# Altium footprint library Actel Footprints.PcbLib: 111 footprints (part 9 of 10)
Each footprint in its own frame and in the unit in brackets; x right, y up, seen from the top. Pads: shape width x height; smd on the part's side, far side on the other; paste and mask are expansions set on the pad; w line width, h text height; cw(c..) or ccw(c..) is an arc to the next point about the centre after c.
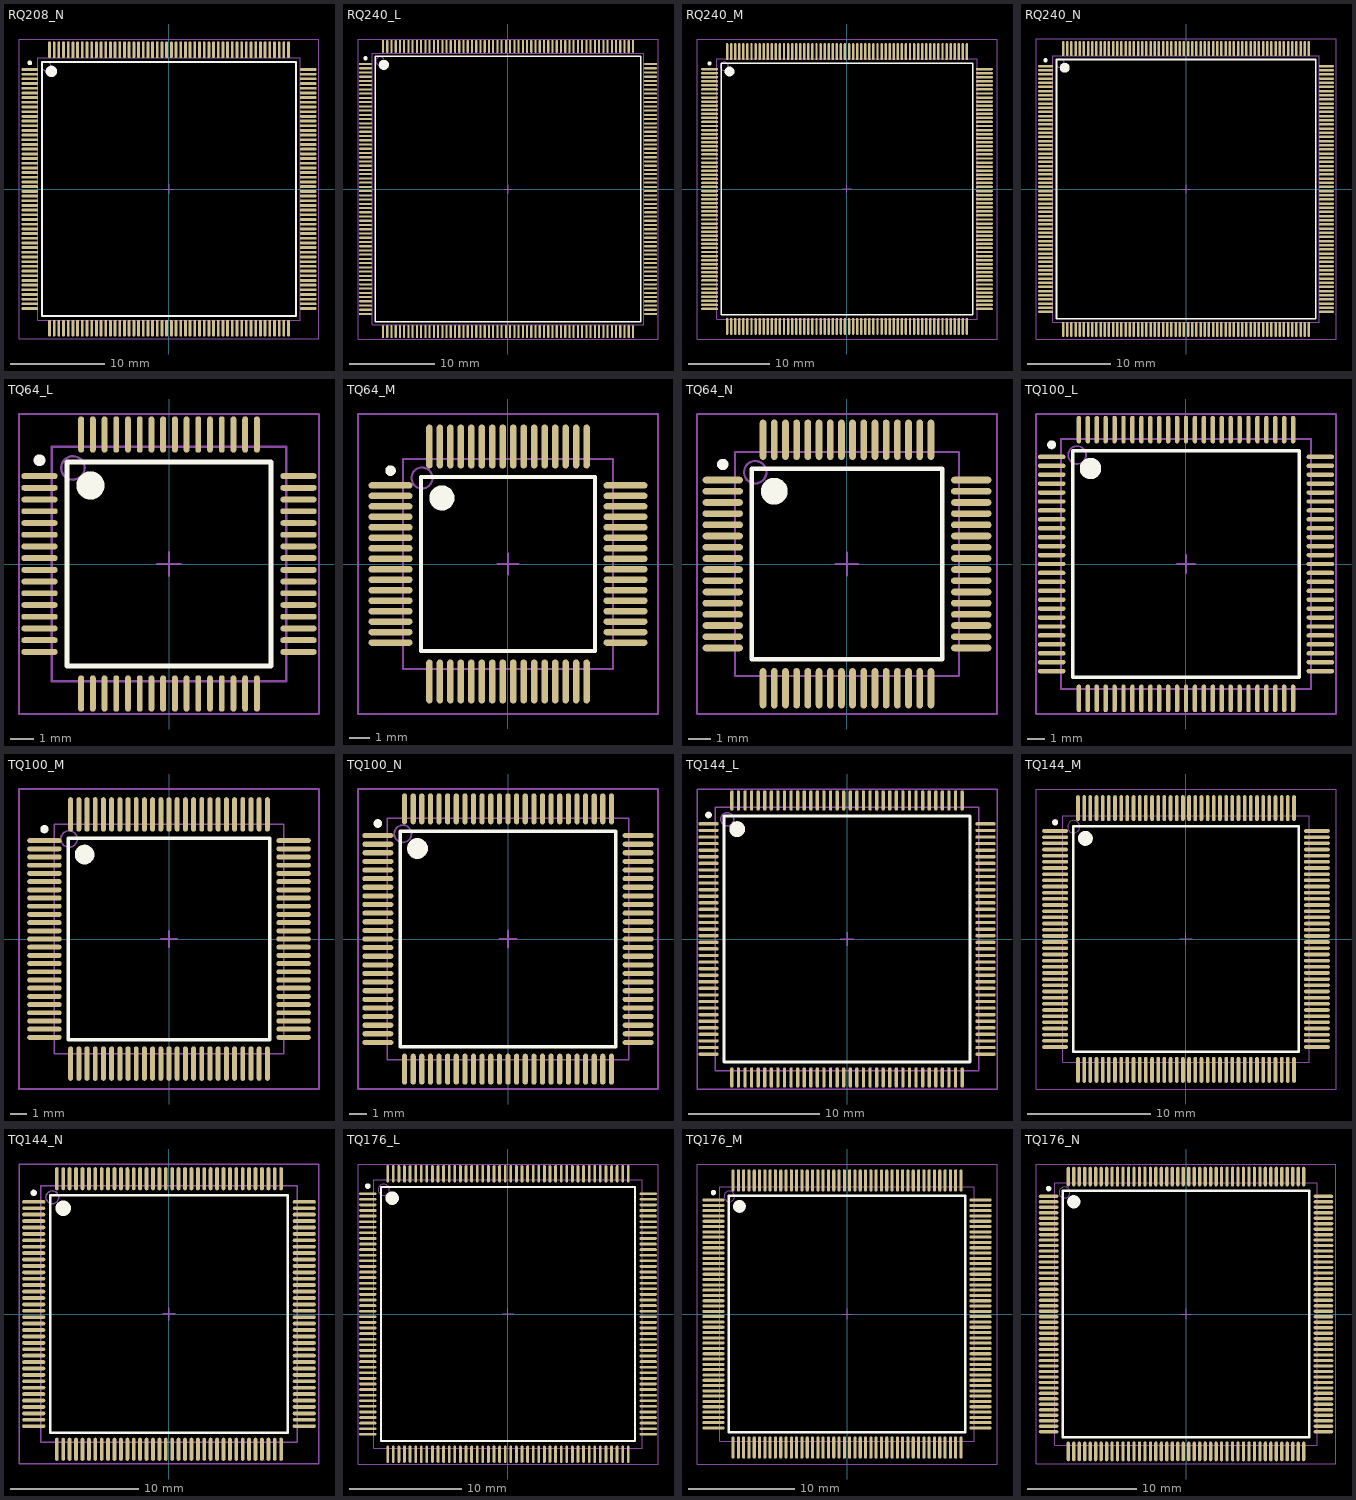
[diagram p8: the footprints below, top view; thin cyan lines are the x and y axes]

## RQ208_N [mm] "208-Pin Plastic Quad Flat Pack (RQ208), IPC Medium Density"
height 4.1
pads (208):
  oval 1.8x0.3 smd: 1(-14.85,12.75) 2(-14.85,12.25) 3(-14.85,11.75) 4(-14.85,11.25) 5(-14.85,10.75) 6(-14.85,10.25) 7(-14.85,9.75) 8(-14.85,9.25) 9(-14.85,8.75) 10(-14.85,8.25) 11(-14.85,7.75) 12(-14.85,7.25) 13(-14.85,6.75) 14(-14.85,6.25) 15(-14.85,5.75) 16(-14.85,5.25) 17(-14.85,4.75) 18(-14.85,4.25) 19(-14.85,3.75) 20(-14.85,3.25) 21(-14.85,2.75) 22(-14.85,2.25) 23(-14.85,1.75) 24(-14.85,1.25) 25(-14.85,0.75) 26(-14.85,0.25) 27(-14.85,-0.25) 28(-14.85,-0.75) 29(-14.85,-1.25) 30(-14.85,-1.75) 31(-14.85,-2.25) 32(-14.85,-2.75) 33(-14.85,-3.25) 34(-14.85,-3.75) 35(-14.85,-4.25) 36(-14.85,-4.75) 37(-14.85,-5.25) 38(-14.85,-5.75) 39(-14.85,-6.25) 40(-14.85,-6.75) 41(-14.85,-7.25) 42(-14.85,-7.75) 43(-14.85,-8.25) 44(-14.85,-8.75) 45(-14.85,-9.25) 46(-14.85,-9.75) 47(-14.85,-10.25) 48(-14.85,-10.75) 49(-14.85,-11.25) 50(-14.85,-11.75) 51(-14.85,-12.25) 52(-14.85,-12.75) 105(14.85,-12.75) 106(14.85,-12.25) 107(14.85,-11.75) 108(14.85,-11.25) 109(14.85,-10.75) 110(14.85,-10.25) 111(14.85,-9.75) 112(14.85,-9.25) 113(14.85,-8.75) 114(14.85,-8.25) 115(14.85,-7.75) 116(14.85,-7.25) 117(14.85,-6.75) 118(14.85,-6.25) 119(14.85,-5.75) 120(14.85,-5.25) 121(14.85,-4.75) 122(14.85,-4.25) 123(14.85,-3.75) 124(14.85,-3.25) 125(14.85,-2.75) 126(14.85,-2.25) 127(14.85,-1.75) 128(14.85,-1.25) 129(14.85,-0.75) 130(14.85,-0.25) 131(14.85,0.25) 132(14.85,0.75) 133(14.85,1.25) 134(14.85,1.75) 135(14.85,2.25) 136(14.85,2.75) 137(14.85,3.25) 138(14.85,3.75) 139(14.85,4.25) 140(14.85,4.75) 141(14.85,5.25) 142(14.85,5.75) 143(14.85,6.25) 144(14.85,6.75) 145(14.85,7.25) 146(14.85,7.75) 147(14.85,8.25) 148(14.85,8.75) 149(14.85,9.25) 150(14.85,9.75) 151(14.85,10.25) 152(14.85,10.75) 153(14.85,11.25) 154(14.85,11.75) 155(14.85,12.25) 156(14.85,12.75)
  oval 0.3x1.8 smd: 53(-12.75,-14.85) 54(-12.25,-14.85) 55(-11.75,-14.85) 56(-11.25,-14.85) 57(-10.75,-14.85) 58(-10.25,-14.85) 59(-9.75,-14.85) 60(-9.25,-14.85) 61(-8.75,-14.85) 62(-8.25,-14.85) 63(-7.75,-14.85) 64(-7.25,-14.85) 65(-6.75,-14.85) 66(-6.25,-14.85) 67(-5.75,-14.85) 68(-5.25,-14.85) 69(-4.75,-14.85) 70(-4.25,-14.85) 71(-3.75,-14.85) 72(-3.25,-14.85) 73(-2.75,-14.85) 74(-2.25,-14.85) 75(-1.75,-14.85) 76(-1.25,-14.85) 77(-0.75,-14.85) 78(-0.25,-14.85) 79(0.25,-14.85) 80(0.75,-14.85) 81(1.25,-14.85) 82(1.75,-14.85) 83(2.25,-14.85) 84(2.75,-14.85) 85(3.25,-14.85) 86(3.75,-14.85) 87(4.25,-14.85) 88(4.75,-14.85) 89(5.25,-14.85) 90(5.75,-14.85) 91(6.25,-14.85) 92(6.75,-14.85) 93(7.25,-14.85) 94(7.75,-14.85) 95(8.25,-14.85) 96(8.75,-14.85) 97(9.25,-14.85) 98(9.75,-14.85) 99(10.25,-14.85) 100(10.75,-14.85) 101(11.25,-14.85) 102(11.75,-14.85) 103(12.25,-14.85) 104(12.75,-14.85) 157(12.75,14.85) 158(12.25,14.85) 159(11.75,14.85) 160(11.25,14.85) 161(10.75,14.85) 162(10.25,14.85) 163(9.75,14.85) 164(9.25,14.85) 165(8.75,14.85) 166(8.25,14.85) 167(7.75,14.85) 168(7.25,14.85) 169(6.75,14.85) 170(6.25,14.85) 171(5.75,14.85) 172(5.25,14.85) 173(4.75,14.85) 174(4.25,14.85) 175(3.75,14.85) 176(3.25,14.85) 177(2.75,14.85) 178(2.25,14.85) 179(1.75,14.85) 180(1.25,14.85) 181(0.75,14.85) 182(0.25,14.85) 183(-0.25,14.85) 184(-0.75,14.85) 185(-1.25,14.85) 186(-1.75,14.85) 187(-2.25,14.85) 188(-2.75,14.85) 189(-3.25,14.85) 190(-3.75,14.85) 191(-4.25,14.85) 192(-4.75,14.85) 193(-5.25,14.85) 194(-5.75,14.85) 195(-6.25,14.85) 196(-6.75,14.85) 197(-7.25,14.85) 198(-7.75,14.85) 199(-8.25,14.85) 200(-8.75,14.85) 201(-9.25,14.85) 202(-9.75,14.85) 203(-10.25,14.85) 204(-10.75,14.85) 205(-11.25,14.85) 206(-11.75,14.85) 207(-12.25,14.85) 208(-12.75,14.85)
Top Overlay:
  circle w0.6: c-12.55,12.55 r0.3
  circle w0.25: c-14.85,13.45 r0.125
  lines w0.2: -13.55,-13.55 13.55,-13.55 13.55,13.55 -13.55,13.55 -13.55,-13.55
Mechanical 13:
  circle w0.1: c-13.1,13.1 r0.5
  lines w0.1: -14,-14 14,-14 14,14 -14,14 -14,-14
Mechanical 15:
  lines w0.1: -0.5,0 0.5,0 ; 0,-0.5 0,0.5 ; -16,-16 16,-16 16,16 -16,16 -16,-16
3D body: height 4.1, standoff 0, extent -14,-14 14,14

## RQ240_L [mm] "240-Pin Plastic Quad Flat Pack (RQ240), IPC High Density"
height 4.1
pads (240):
  oval 1.55x0.25 smd: 1(-16.825,14.75) 2(-16.825,14.25) 3(-16.825,13.75) 4(-16.825,13.25) 5(-16.825,12.75) 6(-16.825,12.25) 7(-16.825,11.75) 8(-16.825,11.25) 9(-16.825,10.75) 10(-16.825,10.25) 11(-16.825,9.75) 12(-16.825,9.25) 13(-16.825,8.75) 14(-16.825,8.25) 15(-16.825,7.75) 16(-16.825,7.25) 17(-16.825,6.75) 18(-16.825,6.25) 19(-16.825,5.75) 20(-16.825,5.25) 21(-16.825,4.75) 22(-16.825,4.25) 23(-16.825,3.75) 24(-16.825,3.25) 25(-16.825,2.75) 26(-16.825,2.25) 27(-16.825,1.75) 28(-16.825,1.25) 29(-16.825,0.75) 30(-16.825,0.25) 31(-16.825,-0.25) 32(-16.825,-0.75) 33(-16.825,-1.25) 34(-16.825,-1.75) 35(-16.825,-2.25) 36(-16.825,-2.75) 37(-16.825,-3.25) 38(-16.825,-3.75) 39(-16.825,-4.25) 40(-16.825,-4.75) 41(-16.825,-5.25) 42(-16.825,-5.75) 43(-16.825,-6.25) 44(-16.825,-6.75) 45(-16.825,-7.25) 46(-16.825,-7.75) 47(-16.825,-8.25) 48(-16.825,-8.75) 49(-16.825,-9.25) 50(-16.825,-9.75) 51(-16.825,-10.25) 52(-16.825,-10.75) 53(-16.825,-11.25) 54(-16.825,-11.75) 55(-16.825,-12.25) 56(-16.825,-12.75) 57(-16.825,-13.25) 58(-16.825,-13.75) 59(-16.825,-14.25) 60(-16.825,-14.75) 121(16.825,-14.75) 122(16.825,-14.25) 123(16.825,-13.75) 124(16.825,-13.25) 125(16.825,-12.75) 126(16.825,-12.25) 127(16.825,-11.75) 128(16.825,-11.25) 129(16.825,-10.75) 130(16.825,-10.25) 131(16.825,-9.75) 132(16.825,-9.25) 133(16.825,-8.75) 134(16.825,-8.25) 135(16.825,-7.75) 136(16.825,-7.25) 137(16.825,-6.75) 138(16.825,-6.25) 139(16.825,-5.75) 140(16.825,-5.25) 141(16.825,-4.75) 142(16.825,-4.25) 143(16.825,-3.75) 144(16.825,-3.25) 145(16.825,-2.75) 146(16.825,-2.25) 147(16.825,-1.75) 148(16.825,-1.25) 149(16.825,-0.75) 150(16.825,-0.25) 151(16.825,0.25) 152(16.825,0.75) 153(16.825,1.25) 154(16.825,1.75) 155(16.825,2.25) 156(16.825,2.75) 157(16.825,3.25) 158(16.825,3.75) 159(16.825,4.25) 160(16.825,4.75) 161(16.825,5.25) 162(16.825,5.75) 163(16.825,6.25) 164(16.825,6.75) 165(16.825,7.25) 166(16.825,7.75) 167(16.825,8.25) 168(16.825,8.75) 169(16.825,9.25) 170(16.825,9.75) 171(16.825,10.25) 172(16.825,10.75) 173(16.825,11.25) 174(16.825,11.75) 175(16.825,12.25) 176(16.825,12.75) 177(16.825,13.25) 178(16.825,13.75) 179(16.825,14.25) 180(16.825,14.75)
  oval 0.25x1.55 smd: 61(-14.75,-16.825) 62(-14.25,-16.825) 63(-13.75,-16.825) 64(-13.25,-16.825) 65(-12.75,-16.825) 66(-12.25,-16.825) 67(-11.75,-16.825) 68(-11.25,-16.825) 69(-10.75,-16.825) 70(-10.25,-16.825) 71(-9.75,-16.825) 72(-9.25,-16.825) 73(-8.75,-16.825) 74(-8.25,-16.825) 75(-7.75,-16.825) 76(-7.25,-16.825) 77(-6.75,-16.825) 78(-6.25,-16.825) 79(-5.75,-16.825) 80(-5.25,-16.825) 81(-4.75,-16.825) 82(-4.25,-16.825) 83(-3.75,-16.825) 84(-3.25,-16.825) 85(-2.75,-16.825) 86(-2.25,-16.825) 87(-1.75,-16.825) 88(-1.25,-16.825) 89(-0.75,-16.825) 90(-0.25,-16.825) 91(0.25,-16.825) 92(0.75,-16.825) 93(1.25,-16.825) 94(1.75,-16.825) 95(2.25,-16.825) 96(2.75,-16.825) 97(3.25,-16.825) 98(3.75,-16.825) 99(4.25,-16.825) 100(4.75,-16.825) 101(5.25,-16.825) 102(5.75,-16.825) 103(6.25,-16.825) 104(6.75,-16.825) 105(7.25,-16.825) 106(7.75,-16.825) 107(8.25,-16.825) 108(8.75,-16.825) 109(9.25,-16.825) 110(9.75,-16.825) 111(10.25,-16.825) 112(10.75,-16.825) 113(11.25,-16.825) 114(11.75,-16.825) 115(12.25,-16.825) 116(12.75,-16.825) 117(13.25,-16.825) 118(13.75,-16.825) 119(14.25,-16.825) 120(14.75,-16.825) 181(14.75,16.825) 182(14.25,16.825) 183(13.75,16.825) 184(13.25,16.825) 185(12.75,16.825) 186(12.25,16.825) 187(11.75,16.825) 188(11.25,16.825) 189(10.75,16.825) 190(10.25,16.825) 191(9.75,16.825) 192(9.25,16.825) 193(8.75,16.825) 194(8.25,16.825) 195(7.75,16.825) 196(7.25,16.825) 197(6.75,16.825) 198(6.25,16.825) 199(5.75,16.825) 200(5.25,16.825) 201(4.75,16.825) 202(4.25,16.825) 203(3.75,16.825) 204(3.25,16.825) 205(2.75,16.825) 206(2.25,16.825) 207(1.75,16.825) 208(1.25,16.825) 209(0.75,16.825) 210(0.25,16.825) 211(-0.25,16.825) 212(-0.75,16.825) 213(-1.25,16.825) 214(-1.75,16.825) 215(-2.25,16.825) 216(-2.75,16.825) 217(-3.25,16.825) 218(-3.75,16.825) 219(-4.25,16.825) 220(-4.75,16.825) 221(-5.25,16.825) 222(-5.75,16.825) 223(-6.25,16.825) 224(-6.75,16.825) 225(-7.25,16.825) 226(-7.75,16.825) 227(-8.25,16.825) 228(-8.75,16.825) 229(-9.25,16.825) 230(-9.75,16.825) 231(-10.25,16.825) 232(-10.75,16.825) 233(-11.25,16.825) 234(-11.75,16.825) 235(-12.25,16.825) 236(-12.75,16.825) 237(-13.25,16.825) 238(-13.75,16.825) 239(-14.25,16.825) 240(-14.75,16.825)
Top Overlay:
  circle w0.6: c-14.65,14.65 r0.3
  circle w0.25: c-16.825,15.425 r0.125
  lines w0.2: -15.65,-15.65 15.65,-15.65 15.65,15.65 -15.65,15.65 -15.65,-15.65
Mechanical 13:
  circle w0.1: c-15.1,15.1 r0.5
  lines w0.1: -16,-16 16,-16 16,16 -16,16 -16,-16
Mechanical 15:
  lines w0.1: -0.5,0 0.5,0 ; 0,-0.5 0,0.5 ; -17.7,-17.7 17.7,-17.7 17.7,17.7 -17.7,17.7 -17.7,-17.7
3D body: height 4.1, standoff 0, extent -16,-16 16,16

## RQ240_M [mm] "240-Pin Plastic Quad Flat Pack (RQ240), IPC Low Density"
height 4.1
pads (240):
  oval 2.1x0.3 smd: 1(-16.9,14.75) 2(-16.9,14.25) 3(-16.9,13.75) 4(-16.9,13.25) 5(-16.9,12.75) 6(-16.9,12.25) 7(-16.9,11.75) 8(-16.9,11.25) 9(-16.9,10.75) 10(-16.9,10.25) 11(-16.9,9.75) 12(-16.9,9.25) 13(-16.9,8.75) 14(-16.9,8.25) 15(-16.9,7.75) 16(-16.9,7.25) 17(-16.9,6.75) 18(-16.9,6.25) 19(-16.9,5.75) 20(-16.9,5.25) 21(-16.9,4.75) 22(-16.9,4.25) 23(-16.9,3.75) 24(-16.9,3.25) 25(-16.9,2.75) 26(-16.9,2.25) 27(-16.9,1.75) 28(-16.9,1.25) 29(-16.9,0.75) 30(-16.9,0.25) 31(-16.9,-0.25) 32(-16.9,-0.75) 33(-16.9,-1.25) 34(-16.9,-1.75) 35(-16.9,-2.25) 36(-16.9,-2.75) 37(-16.9,-3.25) 38(-16.9,-3.75) 39(-16.9,-4.25) 40(-16.9,-4.75) 41(-16.9,-5.25) 42(-16.9,-5.75) 43(-16.9,-6.25) 44(-16.9,-6.75) 45(-16.9,-7.25) 46(-16.9,-7.75) 47(-16.9,-8.25) 48(-16.9,-8.75) 49(-16.9,-9.25) 50(-16.9,-9.75) 51(-16.9,-10.25) 52(-16.9,-10.75) 53(-16.9,-11.25) 54(-16.9,-11.75) 55(-16.9,-12.25) 56(-16.9,-12.75) 57(-16.9,-13.25) 58(-16.9,-13.75) 59(-16.9,-14.25) 60(-16.9,-14.75) 121(16.9,-14.75) 122(16.9,-14.25) 123(16.9,-13.75) 124(16.9,-13.25) 125(16.9,-12.75) 126(16.9,-12.25) 127(16.9,-11.75) 128(16.9,-11.25) 129(16.9,-10.75) 130(16.9,-10.25) 131(16.9,-9.75) 132(16.9,-9.25) 133(16.9,-8.75) 134(16.9,-8.25) 135(16.9,-7.75) 136(16.9,-7.25) 137(16.9,-6.75) 138(16.9,-6.25) 139(16.9,-5.75) 140(16.9,-5.25) 141(16.9,-4.75) 142(16.9,-4.25) 143(16.9,-3.75) 144(16.9,-3.25) 145(16.9,-2.75) 146(16.9,-2.25) 147(16.9,-1.75) 148(16.9,-1.25) 149(16.9,-0.75) 150(16.9,-0.25) 151(16.9,0.25) 152(16.9,0.75) 153(16.9,1.25) 154(16.9,1.75) 155(16.9,2.25) 156(16.9,2.75) 157(16.9,3.25) 158(16.9,3.75) 159(16.9,4.25) 160(16.9,4.75) 161(16.9,5.25) 162(16.9,5.75) 163(16.9,6.25) 164(16.9,6.75) 165(16.9,7.25) 166(16.9,7.75) 167(16.9,8.25) 168(16.9,8.75) 169(16.9,9.25) 170(16.9,9.75) 171(16.9,10.25) 172(16.9,10.75) 173(16.9,11.25) 174(16.9,11.75) 175(16.9,12.25) 176(16.9,12.75) 177(16.9,13.25) 178(16.9,13.75) 179(16.9,14.25) 180(16.9,14.75)
  oval 0.3x2.1 smd: 61(-14.75,-16.9) 62(-14.25,-16.9) 63(-13.75,-16.9) 64(-13.25,-16.9) 65(-12.75,-16.9) 66(-12.25,-16.9) 67(-11.75,-16.9) 68(-11.25,-16.9) 69(-10.75,-16.9) 70(-10.25,-16.9) 71(-9.75,-16.9) 72(-9.25,-16.9) 73(-8.75,-16.9) 74(-8.25,-16.9) 75(-7.75,-16.9) 76(-7.25,-16.9) 77(-6.75,-16.9) 78(-6.25,-16.9) 79(-5.75,-16.9) 80(-5.25,-16.9) 81(-4.75,-16.9) 82(-4.25,-16.9) 83(-3.75,-16.9) 84(-3.25,-16.9) 85(-2.75,-16.9) 86(-2.25,-16.9) 87(-1.75,-16.9) 88(-1.25,-16.9) 89(-0.75,-16.9) 90(-0.25,-16.9) 91(0.25,-16.9) 92(0.75,-16.9) 93(1.25,-16.9) 94(1.75,-16.9) 95(2.25,-16.9) 96(2.75,-16.9) 97(3.25,-16.9) 98(3.75,-16.9) 99(4.25,-16.9) 100(4.75,-16.9) 101(5.25,-16.9) 102(5.75,-16.9) 103(6.25,-16.9) 104(6.75,-16.9) 105(7.25,-16.9) 106(7.75,-16.9) 107(8.25,-16.9) 108(8.75,-16.9) 109(9.25,-16.9) 110(9.75,-16.9) 111(10.25,-16.9) 112(10.75,-16.9) 113(11.25,-16.9) 114(11.75,-16.9) 115(12.25,-16.9) 116(12.75,-16.9) 117(13.25,-16.9) 118(13.75,-16.9) 119(14.25,-16.9) 120(14.75,-16.9) 181(14.75,16.9) 182(14.25,16.9) 183(13.75,16.9) 184(13.25,16.9) 185(12.75,16.9) 186(12.25,16.9) 187(11.75,16.9) 188(11.25,16.9) 189(10.75,16.9) 190(10.25,16.9) 191(9.75,16.9) 192(9.25,16.9) 193(8.75,16.9) 194(8.25,16.9) 195(7.75,16.9) 196(7.25,16.9) 197(6.75,16.9) 198(6.25,16.9) 199(5.75,16.9) 200(5.25,16.9) 201(4.75,16.9) 202(4.25,16.9) 203(3.75,16.9) 204(3.25,16.9) 205(2.75,16.9) 206(2.25,16.9) 207(1.75,16.9) 208(1.25,16.9) 209(0.75,16.9) 210(0.25,16.9) 211(-0.25,16.9) 212(-0.75,16.9) 213(-1.25,16.9) 214(-1.75,16.9) 215(-2.25,16.9) 216(-2.75,16.9) 217(-3.25,16.9) 218(-3.75,16.9) 219(-4.25,16.9) 220(-4.75,16.9) 221(-5.25,16.9) 222(-5.75,16.9) 223(-6.25,16.9) 224(-6.75,16.9) 225(-7.25,16.9) 226(-7.75,16.9) 227(-8.25,16.9) 228(-8.75,16.9) 229(-9.25,16.9) 230(-9.75,16.9) 231(-10.25,16.9) 232(-10.75,16.9) 233(-11.25,16.9) 234(-11.75,16.9) 235(-12.25,16.9) 236(-12.75,16.9) 237(-13.25,16.9) 238(-13.75,16.9) 239(-14.25,16.9) 240(-14.75,16.9)
Top Overlay:
  circle w0.6: c-14.45,14.45 r0.3
  circle w0.25: c-16.9,15.45 r0.125
  lines w0.2: -15.45,-15.45 15.45,-15.45 15.45,15.45 -15.45,15.45 -15.45,-15.45
Mechanical 13:
  circle w0.1: c-15.1,15.1 r0.5
  lines w0.1: -16,-16 16,-16 16,16 -16,16 -16,-16
Mechanical 15:
  lines w0.1: -0.5,0 0.5,0 ; 0,-0.5 0,0.5 ; -18.45,-18.45 18.45,-18.45 18.45,18.45 -18.45,18.45 -18.45,-18.45
3D body: height 4.1, standoff 0, extent -16,-16 16,16

## RQ240_N [mm] "240-Pin Plastic Quad Flat Pack (RQ240), IPC Medium Density"
height 4.1
pads (240):
  oval 1.8x0.3 smd: 1(-16.85,14.75) 2(-16.85,14.25) 3(-16.85,13.75) 4(-16.85,13.25) 5(-16.85,12.75) 6(-16.85,12.25) 7(-16.85,11.75) 8(-16.85,11.25) 9(-16.85,10.75) 10(-16.85,10.25) 11(-16.85,9.75) 12(-16.85,9.25) 13(-16.85,8.75) 14(-16.85,8.25) 15(-16.85,7.75) 16(-16.85,7.25) 17(-16.85,6.75) 18(-16.85,6.25) 19(-16.85,5.75) 20(-16.85,5.25) 21(-16.85,4.75) 22(-16.85,4.25) 23(-16.85,3.75) 24(-16.85,3.25) 25(-16.85,2.75) 26(-16.85,2.25) 27(-16.85,1.75) 28(-16.85,1.25) 29(-16.85,0.75) 30(-16.85,0.25) 31(-16.85,-0.25) 32(-16.85,-0.75) 33(-16.85,-1.25) 34(-16.85,-1.75) 35(-16.85,-2.25) 36(-16.85,-2.75) 37(-16.85,-3.25) 38(-16.85,-3.75) 39(-16.85,-4.25) 40(-16.85,-4.75) 41(-16.85,-5.25) 42(-16.85,-5.75) 43(-16.85,-6.25) 44(-16.85,-6.75) 45(-16.85,-7.25) 46(-16.85,-7.75) 47(-16.85,-8.25) 48(-16.85,-8.75) 49(-16.85,-9.25) 50(-16.85,-9.75) 51(-16.85,-10.25) 52(-16.85,-10.75) 53(-16.85,-11.25) 54(-16.85,-11.75) 55(-16.85,-12.25) 56(-16.85,-12.75) 57(-16.85,-13.25) 58(-16.85,-13.75) 59(-16.85,-14.25) 60(-16.85,-14.75) 121(16.85,-14.75) 122(16.85,-14.25) 123(16.85,-13.75) 124(16.85,-13.25) 125(16.85,-12.75) 126(16.85,-12.25) 127(16.85,-11.75) 128(16.85,-11.25) 129(16.85,-10.75) 130(16.85,-10.25) 131(16.85,-9.75) 132(16.85,-9.25) 133(16.85,-8.75) 134(16.85,-8.25) 135(16.85,-7.75) 136(16.85,-7.25) 137(16.85,-6.75) 138(16.85,-6.25) 139(16.85,-5.75) 140(16.85,-5.25) 141(16.85,-4.75) 142(16.85,-4.25) 143(16.85,-3.75) 144(16.85,-3.25) 145(16.85,-2.75) 146(16.85,-2.25) 147(16.85,-1.75) 148(16.85,-1.25) 149(16.85,-0.75) 150(16.85,-0.25) 151(16.85,0.25) 152(16.85,0.75) 153(16.85,1.25) 154(16.85,1.75) 155(16.85,2.25) 156(16.85,2.75) 157(16.85,3.25) 158(16.85,3.75) 159(16.85,4.25) 160(16.85,4.75) 161(16.85,5.25) 162(16.85,5.75) 163(16.85,6.25) 164(16.85,6.75) 165(16.85,7.25) 166(16.85,7.75) 167(16.85,8.25) 168(16.85,8.75) 169(16.85,9.25) 170(16.85,9.75) 171(16.85,10.25) 172(16.85,10.75) 173(16.85,11.25) 174(16.85,11.75) 175(16.85,12.25) 176(16.85,12.75) 177(16.85,13.25) 178(16.85,13.75) 179(16.85,14.25) 180(16.85,14.75)
  oval 0.3x1.8 smd: 61(-14.75,-16.85) 62(-14.25,-16.85) 63(-13.75,-16.85) 64(-13.25,-16.85) 65(-12.75,-16.85) 66(-12.25,-16.85) 67(-11.75,-16.85) 68(-11.25,-16.85) 69(-10.75,-16.85) 70(-10.25,-16.85) 71(-9.75,-16.85) 72(-9.25,-16.85) 73(-8.75,-16.85) 74(-8.25,-16.85) 75(-7.75,-16.85) 76(-7.25,-16.85) 77(-6.75,-16.85) 78(-6.25,-16.85) 79(-5.75,-16.85) 80(-5.25,-16.85) 81(-4.75,-16.85) 82(-4.25,-16.85) 83(-3.75,-16.85) 84(-3.25,-16.85) 85(-2.75,-16.85) 86(-2.25,-16.85) 87(-1.75,-16.85) 88(-1.25,-16.85) 89(-0.75,-16.85) 90(-0.25,-16.85) 91(0.25,-16.85) 92(0.75,-16.85) 93(1.25,-16.85) 94(1.75,-16.85) 95(2.25,-16.85) 96(2.75,-16.85) 97(3.25,-16.85) 98(3.75,-16.85) 99(4.25,-16.85) 100(4.75,-16.85) 101(5.25,-16.85) 102(5.75,-16.85) 103(6.25,-16.85) 104(6.75,-16.85) 105(7.25,-16.85) 106(7.75,-16.85) 107(8.25,-16.85) 108(8.75,-16.85) 109(9.25,-16.85) 110(9.75,-16.85) 111(10.25,-16.85) 112(10.75,-16.85) 113(11.25,-16.85) 114(11.75,-16.85) 115(12.25,-16.85) 116(12.75,-16.85) 117(13.25,-16.85) 118(13.75,-16.85) 119(14.25,-16.85) 120(14.75,-16.85) 181(14.75,16.85) 182(14.25,16.85) 183(13.75,16.85) 184(13.25,16.85) 185(12.75,16.85) 186(12.25,16.85) 187(11.75,16.85) 188(11.25,16.85) 189(10.75,16.85) 190(10.25,16.85) 191(9.75,16.85) 192(9.25,16.85) 193(8.75,16.85) 194(8.25,16.85) 195(7.75,16.85) 196(7.25,16.85) 197(6.75,16.85) 198(6.25,16.85) 199(5.75,16.85) 200(5.25,16.85) 201(4.75,16.85) 202(4.25,16.85) 203(3.75,16.85) 204(3.25,16.85) 205(2.75,16.85) 206(2.25,16.85) 207(1.75,16.85) 208(1.25,16.85) 209(0.75,16.85) 210(0.25,16.85) 211(-0.25,16.85) 212(-0.75,16.85) 213(-1.25,16.85) 214(-1.75,16.85) 215(-2.25,16.85) 216(-2.75,16.85) 217(-3.25,16.85) 218(-3.75,16.85) 219(-4.25,16.85) 220(-4.75,16.85) 221(-5.25,16.85) 222(-5.75,16.85) 223(-6.25,16.85) 224(-6.75,16.85) 225(-7.25,16.85) 226(-7.75,16.85) 227(-8.25,16.85) 228(-8.75,16.85) 229(-9.25,16.85) 230(-9.75,16.85) 231(-10.25,16.85) 232(-10.75,16.85) 233(-11.25,16.85) 234(-11.75,16.85) 235(-12.25,16.85) 236(-12.75,16.85) 237(-13.25,16.85) 238(-13.75,16.85) 239(-14.25,16.85) 240(-14.75,16.85)
Top Overlay:
  circle w0.6: c-14.55,14.55 r0.3
  circle w0.25: c-16.85,15.45 r0.125
  lines w0.2: -15.55,-15.55 15.55,-15.55 15.55,15.55 -15.55,15.55 -15.55,-15.55
Mechanical 13:
  circle w0.1: c-15.1,15.1 r0.5
  lines w0.1: -16,-16 16,-16 16,16 -16,16 -16,-16
Mechanical 15:
  lines w0.1: -0.5,0 0.5,0 ; 0,-0.5 0,0.5 ; -18,-18 18,-18 18,18 -18,18 -18,-18
3D body: height 4.1, standoff 0, extent -16,-16 16,16

## TQ64_L [mm] "64-Pin Plastic Quad Flat Pack (TQ64), IPC High Density"
height 1.6
pads (64):
  oval 1.55x0.25 smd: 1(-5.525,3.75) 2(-5.525,3.25) 3(-5.525,2.75) 4(-5.525,2.25) 5(-5.525,1.75) 6(-5.525,1.25) 7(-5.525,0.75) 8(-5.525,0.25) 9(-5.525,-0.25) 10(-5.525,-0.75) 11(-5.525,-1.25) 12(-5.525,-1.75) 13(-5.525,-2.25) 14(-5.525,-2.75) 15(-5.525,-3.25) 16(-5.525,-3.75) 33(5.525,-3.75) 34(5.525,-3.25) 35(5.525,-2.75) 36(5.525,-2.25) 37(5.525,-1.75) 38(5.525,-1.25) 39(5.525,-0.75) 40(5.525,-0.25) 41(5.525,0.25) 42(5.525,0.75) 43(5.525,1.25) 44(5.525,1.75) 45(5.525,2.25) 46(5.525,2.75) 47(5.525,3.25) 48(5.525,3.75)
  oval 0.25x1.55 smd: 17(-3.75,-5.525) 18(-3.25,-5.525) 19(-2.75,-5.525) 20(-2.25,-5.525) 21(-1.75,-5.525) 22(-1.25,-5.525) 23(-0.75,-5.525) 24(-0.25,-5.525) 25(0.25,-5.525) 26(0.75,-5.525) 27(1.25,-5.525) 28(1.75,-5.525) 29(2.25,-5.525) 30(2.75,-5.525) 31(3.25,-5.525) 32(3.75,-5.525) 49(3.75,5.525) 50(3.25,5.525) 51(2.75,5.525) 52(2.25,5.525) 53(1.75,5.525) 54(1.25,5.525) 55(0.75,5.525) 56(0.25,5.525) 57(-0.25,5.525) 58(-0.75,5.525) 59(-1.25,5.525) 60(-1.75,5.525) 61(-2.25,5.525) 62(-2.75,5.525) 63(-3.25,5.525) 64(-3.75,5.525)
Top Overlay:
  circle w0.6: c-3.35,3.35 r0.3
  circle w0.25: c-5.525,4.425 r0.125
  lines w0.2: -4.35,-4.35 4.35,-4.35 4.35,4.35 -4.35,4.35 -4.35,-4.35
Mechanical 13:
  circle w0.1: c-4.1,4.1 r0.5
  lines w0.1: -5,-5 5,-5 5,5 -5,5 -5,-5
Mechanical 15:
  lines w0.1: -0.5,0 0.5,0 ; 0,-0.5 0,0.5 ; -6.4,-6.4 6.4,-6.4 6.4,6.4 -6.4,6.4 -6.4,-6.4
3D body: height 1.6, standoff 0, extent -5,-5 5,5

## TQ64_M [mm] "64-Pin Plastic Quad Flat Pack (TQ64), IPC Low Density"
height 1.6
pads (64):
  oval 2.1x0.3 smd: 1(-5.6,3.75) 2(-5.6,3.25) 3(-5.6,2.75) 4(-5.6,2.25) 5(-5.6,1.75) 6(-5.6,1.25) 7(-5.6,0.75) 8(-5.6,0.25) 9(-5.6,-0.25) 10(-5.6,-0.75) 11(-5.6,-1.25) 12(-5.6,-1.75) 13(-5.6,-2.25) 14(-5.6,-2.75) 15(-5.6,-3.25) 16(-5.6,-3.75) 33(5.6,-3.75) 34(5.6,-3.25) 35(5.6,-2.75) 36(5.6,-2.25) 37(5.6,-1.75) 38(5.6,-1.25) 39(5.6,-0.75) 40(5.6,-0.25) 41(5.6,0.25) 42(5.6,0.75) 43(5.6,1.25) 44(5.6,1.75) 45(5.6,2.25) 46(5.6,2.75) 47(5.6,3.25) 48(5.6,3.75)
  oval 0.3x2.1 smd: 17(-3.75,-5.6) 18(-3.25,-5.6) 19(-2.75,-5.6) 20(-2.25,-5.6) 21(-1.75,-5.6) 22(-1.25,-5.6) 23(-0.75,-5.6) 24(-0.25,-5.6) 25(0.25,-5.6) 26(0.75,-5.6) 27(1.25,-5.6) 28(1.75,-5.6) 29(2.25,-5.6) 30(2.75,-5.6) 31(3.25,-5.6) 32(3.75,-5.6) 49(3.75,5.6) 50(3.25,5.6) 51(2.75,5.6) 52(2.25,5.6) 53(1.75,5.6) 54(1.25,5.6) 55(0.75,5.6) 56(0.25,5.6) 57(-0.25,5.6) 58(-0.75,5.6) 59(-1.25,5.6) 60(-1.75,5.6) 61(-2.25,5.6) 62(-2.75,5.6) 63(-3.25,5.6) 64(-3.75,5.6)
Top Overlay:
  circle w0.6: c-3.15,3.15 r0.3
  circle w0.25: c-5.6,4.45 r0.125
  lines w0.2: -4.15,-4.15 4.15,-4.15 4.15,4.15 -4.15,4.15 -4.15,-4.15
Mechanical 13:
  circle w0.1: c-4.1,4.1 r0.5
  lines w0.1: -5,-5 5,-5 5,5 -5,5 -5,-5
Mechanical 15:
  lines w0.1: -0.5,0 0.5,0 ; 0,-0.5 0,0.5 ; -7.15,-7.15 7.15,-7.15 7.15,7.15 -7.15,7.15 -7.15,-7.15
3D body: height 1.6, standoff 0, extent -5,-5 5,5

## TQ64_N [mm] "64-Pin Plastic Quad Flat Pack (TQ64), IPC Medium Density"
height 1.6
pads (64):
  oval 1.8x0.3 smd: 1(-5.55,3.75) 2(-5.55,3.25) 3(-5.55,2.75) 4(-5.55,2.25) 5(-5.55,1.75) 6(-5.55,1.25) 7(-5.55,0.75) 8(-5.55,0.25) 9(-5.55,-0.25) 10(-5.55,-0.75) 11(-5.55,-1.25) 12(-5.55,-1.75) 13(-5.55,-2.25) 14(-5.55,-2.75) 15(-5.55,-3.25) 16(-5.55,-3.75) 33(5.55,-3.75) 34(5.55,-3.25) 35(5.55,-2.75) 36(5.55,-2.25) 37(5.55,-1.75) 38(5.55,-1.25) 39(5.55,-0.75) 40(5.55,-0.25) 41(5.55,0.25) 42(5.55,0.75) 43(5.55,1.25) 44(5.55,1.75) 45(5.55,2.25) 46(5.55,2.75) 47(5.55,3.25) 48(5.55,3.75)
  oval 0.3x1.8 smd: 17(-3.75,-5.55) 18(-3.25,-5.55) 19(-2.75,-5.55) 20(-2.25,-5.55) 21(-1.75,-5.55) 22(-1.25,-5.55) 23(-0.75,-5.55) 24(-0.25,-5.55) 25(0.25,-5.55) 26(0.75,-5.55) 27(1.25,-5.55) 28(1.75,-5.55) 29(2.25,-5.55) 30(2.75,-5.55) 31(3.25,-5.55) 32(3.75,-5.55) 49(3.75,5.55) 50(3.25,5.55) 51(2.75,5.55) 52(2.25,5.55) 53(1.75,5.55) 54(1.25,5.55) 55(0.75,5.55) 56(0.25,5.55) 57(-0.25,5.55) 58(-0.75,5.55) 59(-1.25,5.55) 60(-1.75,5.55) 61(-2.25,5.55) 62(-2.75,5.55) 63(-3.25,5.55) 64(-3.75,5.55)
Top Overlay:
  circle w0.25: c-5.55,4.45 r0.125
  circle w0.6: c-3.25,3.25 r0.3
  lines w0.2: -4.25,-4.25 -4.25,4.25 4.25,4.25 4.25,-4.25 -4.25,-4.25
Mechanical 13:
  circle w0.1: c-4.1,4.1 r0.5
  lines w0.1: -5,-5 -5,5 5,5 5,-5 -5,-5
Mechanical 15:
  lines w0.1: -0.5,0 0.5,0 ; 0,-0.5 0,0.5 ; -6.7,-6.7 -6.7,6.7 6.7,6.7 6.7,-6.7 -6.7,-6.7
3D body: height 1.6, standoff 0, extent -5,-5 5,5

## TQ100_L [mm] "100-Pin Plastic Quad Flat Pack (TQ100), IPC High Density"
height 1.6
pads (100):
  oval 1.55x0.25 smd: 1(-7.525,6) 2(-7.525,5.5) 3(-7.525,5) 4(-7.525,4.5) 5(-7.525,4) 6(-7.525,3.5) 7(-7.525,3) 8(-7.525,2.5) 9(-7.525,2) 10(-7.525,1.5) 11(-7.525,1) 12(-7.525,0.5) 13(-7.525,0) 14(-7.525,-0.5) 15(-7.525,-1) 16(-7.525,-1.5) 17(-7.525,-2) 18(-7.525,-2.5) 19(-7.525,-3) 20(-7.525,-3.5) 21(-7.525,-4) 22(-7.525,-4.5) 23(-7.525,-5) 24(-7.525,-5.5) 25(-7.525,-6) 51(7.525,-6) 52(7.525,-5.5) 53(7.525,-5) 54(7.525,-4.5) 55(7.525,-4) 56(7.525,-3.5) 57(7.525,-3) 58(7.525,-2.5) 59(7.525,-2) 60(7.525,-1.5) 61(7.525,-1) 62(7.525,-0.5) 63(7.525,0) 64(7.525,0.5) 65(7.525,1) 66(7.525,1.5) 67(7.525,2) 68(7.525,2.5) 69(7.525,3) 70(7.525,3.5) 71(7.525,4) 72(7.525,4.5) 73(7.525,5) 74(7.525,5.5) 75(7.525,6)
  oval 0.25x1.55 smd: 26(-6,-7.525) 27(-5.5,-7.525) 28(-5,-7.525) 29(-4.5,-7.525) 30(-4,-7.525) 31(-3.5,-7.525) 32(-3,-7.525) 33(-2.5,-7.525) 34(-2,-7.525) 35(-1.5,-7.525) 36(-1,-7.525) 37(-0.5,-7.525) 38(0,-7.525) 39(0.5,-7.525) 40(1,-7.525) 41(1.5,-7.525) 42(2,-7.525) 43(2.5,-7.525) 44(3,-7.525) 45(3.5,-7.525) 46(4,-7.525) 47(4.5,-7.525) 48(5,-7.525) 49(5.5,-7.525) 50(6,-7.525) 76(6,7.525) 77(5.5,7.525) 78(5,7.525) 79(4.5,7.525) 80(4,7.525) 81(3.5,7.525) 82(3,7.525) 83(2.5,7.525) 84(2,7.525) 85(1.5,7.525) 86(1,7.525) 87(0.5,7.525) 88(0,7.525) 89(-0.5,7.525) 90(-1,7.525) 91(-1.5,7.525) 92(-2,7.525) 93(-2.5,7.525) 94(-3,7.525) 95(-3.5,7.525) 96(-4,7.525) 97(-4.5,7.525) 98(-5,7.525) 99(-5.5,7.525) 100(-6,7.525)
Top Overlay:
  circle w0.6: c-5.35,5.35 r0.3
  circle w0.25: c-7.525,6.675 r0.125
  lines w0.2: -6.35,-6.35 6.35,-6.35 6.35,6.35 -6.35,6.35 -6.35,-6.35
Mechanical 13:
  circle w0.1: c-6.1,6.1 r0.5
  lines w0.1: -7,-7 7,-7 7,7 -7,7 -7,-7
Mechanical 15:
  lines w0.1: -0.5,0 0.5,0 ; 0,-0.5 0,0.5 ; -8.4,-8.4 8.4,-8.4 8.4,8.4 -8.4,8.4 -8.4,-8.4
3D body: height 1.6, standoff 0, extent -7,-7 7,7

## TQ100_M [mm] "100-Pin Plastic Quad Flat Pack (TQ100), IPC Low Density"
height 1.6
pads (100):
  oval 2.1x0.3 smd: 1(-7.6,6) 2(-7.6,5.5) 3(-7.6,5) 4(-7.6,4.5) 5(-7.6,4) 6(-7.6,3.5) 7(-7.6,3) 8(-7.6,2.5) 9(-7.6,2) 10(-7.6,1.5) 11(-7.6,1) 12(-7.6,0.5) 13(-7.6,0) 14(-7.6,-0.5) 15(-7.6,-1) 16(-7.6,-1.5) 17(-7.6,-2) 18(-7.6,-2.5) 19(-7.6,-3) 20(-7.6,-3.5) 21(-7.6,-4) 22(-7.6,-4.5) 23(-7.6,-5) 24(-7.6,-5.5) 25(-7.6,-6) 51(7.6,-6) 52(7.6,-5.5) 53(7.6,-5) 54(7.6,-4.5) 55(7.6,-4) 56(7.6,-3.5) 57(7.6,-3) 58(7.6,-2.5) 59(7.6,-2) 60(7.6,-1.5) 61(7.6,-1) 62(7.6,-0.5) 63(7.6,0) 64(7.6,0.5) 65(7.6,1) 66(7.6,1.5) 67(7.6,2) 68(7.6,2.5) 69(7.6,3) 70(7.6,3.5) 71(7.6,4) 72(7.6,4.5) 73(7.6,5) 74(7.6,5.5) 75(7.6,6)
  oval 0.3x2.1 smd: 26(-6,-7.6) 27(-5.5,-7.6) 28(-5,-7.6) 29(-4.5,-7.6) 30(-4,-7.6) 31(-3.5,-7.6) 32(-3,-7.6) 33(-2.5,-7.6) 34(-2,-7.6) 35(-1.5,-7.6) 36(-1,-7.6) 37(-0.5,-7.6) 38(0,-7.6) 39(0.5,-7.6) 40(1,-7.6) 41(1.5,-7.6) 42(2,-7.6) 43(2.5,-7.6) 44(3,-7.6) 45(3.5,-7.6) 46(4,-7.6) 47(4.5,-7.6) 48(5,-7.6) 49(5.5,-7.6) 50(6,-7.6) 76(6,7.6) 77(5.5,7.6) 78(5,7.6) 79(4.5,7.6) 80(4,7.6) 81(3.5,7.6) 82(3,7.6) 83(2.5,7.6) 84(2,7.6) 85(1.5,7.6) 86(1,7.6) 87(0.5,7.6) 88(0,7.6) 89(-0.5,7.6) 90(-1,7.6) 91(-1.5,7.6) 92(-2,7.6) 93(-2.5,7.6) 94(-3,7.6) 95(-3.5,7.6) 96(-4,7.6) 97(-4.5,7.6) 98(-5,7.6) 99(-5.5,7.6) 100(-6,7.6)
Top Overlay:
  circle w0.6: c-5.15,5.15 r0.3
  circle w0.25: c-7.6,6.7 r0.125
  lines w0.2: -6.15,-6.15 6.15,-6.15 6.15,6.15 -6.15,6.15 -6.15,-6.15
Mechanical 13:
  circle w0.1: c-6.1,6.1 r0.5
  lines w0.1: -7,-7 7,-7 7,7 -7,7 -7,-7
Mechanical 15:
  lines w0.1: -0.5,0 0.5,0 ; 0,-0.5 0,0.5 ; -9.15,-9.15 9.15,-9.15 9.15,9.15 -9.15,9.15 -9.15,-9.15
3D body: height 1.6, standoff 0, extent -7,-7 7,7

## TQ100_N [mm] "100-Pin Plastic Quad Flat Pack (TQ100), IPC Medium Density"
height 1.6
pads (100):
  oval 1.8x0.3 smd: 1(-7.55,6) 2(-7.55,5.5) 3(-7.55,5) 4(-7.55,4.5) 5(-7.55,4) 6(-7.55,3.5) 7(-7.55,3) 8(-7.55,2.5) 9(-7.55,2) 10(-7.55,1.5) 11(-7.55,1) 12(-7.55,0.5) 13(-7.55,0) 14(-7.55,-0.5) 15(-7.55,-1) 16(-7.55,-1.5) 17(-7.55,-2) 18(-7.55,-2.5) 19(-7.55,-3) 20(-7.55,-3.5) 21(-7.55,-4) 22(-7.55,-4.5) 23(-7.55,-5) 24(-7.55,-5.5) 25(-7.55,-6) 51(7.55,-6) 52(7.55,-5.5) 53(7.55,-5) 54(7.55,-4.5) 55(7.55,-4) 56(7.55,-3.5) 57(7.55,-3) 58(7.55,-2.5) 59(7.55,-2) 60(7.55,-1.5) 61(7.55,-1) 62(7.55,-0.5) 63(7.55,0) 64(7.55,0.5) 65(7.55,1) 66(7.55,1.5) 67(7.55,2) 68(7.55,2.5) 69(7.55,3) 70(7.55,3.5) 71(7.55,4) 72(7.55,4.5) 73(7.55,5) 74(7.55,5.5) 75(7.55,6)
  oval 0.3x1.8 smd: 26(-6,-7.55) 27(-5.5,-7.55) 28(-5,-7.55) 29(-4.5,-7.55) 30(-4,-7.55) 31(-3.5,-7.55) 32(-3,-7.55) 33(-2.5,-7.55) 34(-2,-7.55) 35(-1.5,-7.55) 36(-1,-7.55) 37(-0.5,-7.55) 38(0,-7.55) 39(0.5,-7.55) 40(1,-7.55) 41(1.5,-7.55) 42(2,-7.55) 43(2.5,-7.55) 44(3,-7.55) 45(3.5,-7.55) 46(4,-7.55) 47(4.5,-7.55) 48(5,-7.55) 49(5.5,-7.55) 50(6,-7.55) 76(6,7.55) 77(5.5,7.55) 78(5,7.55) 79(4.5,7.55) 80(4,7.55) 81(3.5,7.55) 82(3,7.55) 83(2.5,7.55) 84(2,7.55) 85(1.5,7.55) 86(1,7.55) 87(0.5,7.55) 88(0,7.55) 89(-0.5,7.55) 90(-1,7.55) 91(-1.5,7.55) 92(-2,7.55) 93(-2.5,7.55) 94(-3,7.55) 95(-3.5,7.55) 96(-4,7.55) 97(-4.5,7.55) 98(-5,7.55) 99(-5.5,7.55) 100(-6,7.55)
Top Overlay:
  circle w0.6: c-5.25,5.25 r0.3
  circle w0.25: c-7.55,6.7 r0.125
  lines w0.2: -6.25,-6.25 6.25,-6.25 6.25,6.25 -6.25,6.25 -6.25,-6.25
Mechanical 13:
  circle w0.1: c-6.1,6.1 r0.5
  lines w0.1: -7,-7 7,-7 7,7 -7,7 -7,-7
Mechanical 15:
  lines w0.1: -0.5,0 0.5,0 ; 0,-0.5 0,0.5 ; -8.7,-8.7 8.7,-8.7 8.7,8.7 -8.7,8.7 -8.7,-8.7
3D body: height 1.6, standoff 0, extent -7,-7 7,7

## TQ144_L [mm] "144-Pin Plastic Quad Flat Pack (TQ144), IPC High Density"
height 1.6
pads (144):
  oval 1.55x0.25 smd: 1(-10.525,8.75) 2(-10.525,8.25) 3(-10.525,7.75) 4(-10.525,7.25) 5(-10.525,6.75) 6(-10.525,6.25) 7(-10.525,5.75) 8(-10.525,5.25) 9(-10.525,4.75) 10(-10.525,4.25) 11(-10.525,3.75) 12(-10.525,3.25) 13(-10.525,2.75) 14(-10.525,2.25) 15(-10.525,1.75) 16(-10.525,1.25) 17(-10.525,0.75) 18(-10.525,0.25) 19(-10.525,-0.25) 20(-10.525,-0.75) 21(-10.525,-1.25) 22(-10.525,-1.75) 23(-10.525,-2.25) 24(-10.525,-2.75) 25(-10.525,-3.25) 26(-10.525,-3.75) 27(-10.525,-4.25) 28(-10.525,-4.75) 29(-10.525,-5.25) 30(-10.525,-5.75) 31(-10.525,-6.25) 32(-10.525,-6.75) 33(-10.525,-7.25) 34(-10.525,-7.75) 35(-10.525,-8.25) 36(-10.525,-8.75) 73(10.525,-8.75) 74(10.525,-8.25) 75(10.525,-7.75) 76(10.525,-7.25) 77(10.525,-6.75) 78(10.525,-6.25) 79(10.525,-5.75) 80(10.525,-5.25) 81(10.525,-4.75) 82(10.525,-4.25) 83(10.525,-3.75) 84(10.525,-3.25) 85(10.525,-2.75) 86(10.525,-2.25) 87(10.525,-1.75) 88(10.525,-1.25) 89(10.525,-0.75) 90(10.525,-0.25) 91(10.525,0.25) 92(10.525,0.75) 93(10.525,1.25) 94(10.525,1.75) 95(10.525,2.25) 96(10.525,2.75) 97(10.525,3.25) 98(10.525,3.75) 99(10.525,4.25) 100(10.525,4.75) 101(10.525,5.25) 102(10.525,5.75) 103(10.525,6.25) 104(10.525,6.75) 105(10.525,7.25) 106(10.525,7.75) 107(10.525,8.25) 108(10.525,8.75)
  oval 0.25x1.55 smd: 37(-8.75,-10.525) 38(-8.25,-10.525) 39(-7.75,-10.525) 40(-7.25,-10.525) 41(-6.75,-10.525) 42(-6.25,-10.525) 43(-5.75,-10.525) 44(-5.25,-10.525) 45(-4.75,-10.525) 46(-4.25,-10.525) 47(-3.75,-10.525) 48(-3.25,-10.525) 49(-2.75,-10.525) 50(-2.25,-10.525) 51(-1.75,-10.525) 52(-1.25,-10.525) 53(-0.75,-10.525) 54(-0.25,-10.525) 55(0.25,-10.525) 56(0.75,-10.525) 57(1.25,-10.525) 58(1.75,-10.525) 59(2.25,-10.525) 60(2.75,-10.525) 61(3.25,-10.525) 62(3.75,-10.525) 63(4.25,-10.525) 64(4.75,-10.525) 65(5.25,-10.525) 66(5.75,-10.525) 67(6.25,-10.525) 68(6.75,-10.525) 69(7.25,-10.525) 70(7.75,-10.525) 71(8.25,-10.525) 72(8.75,-10.525) 109(8.75,10.525) 110(8.25,10.525) 111(7.75,10.525) 112(7.25,10.525) 113(6.75,10.525) 114(6.25,10.525) 115(5.75,10.525) 116(5.25,10.525) 117(4.75,10.525) 118(4.25,10.525) 119(3.75,10.525) 120(3.25,10.525) 121(2.75,10.525) 122(2.25,10.525) 123(1.75,10.525) 124(1.25,10.525) 125(0.75,10.525) 126(0.25,10.525) 127(-0.25,10.525) 128(-0.75,10.525) 129(-1.25,10.525) 130(-1.75,10.525) 131(-2.25,10.525) 132(-2.75,10.525) 133(-3.25,10.525) 134(-3.75,10.525) 135(-4.25,10.525) 136(-4.75,10.525) 137(-5.25,10.525) 138(-5.75,10.525) 139(-6.25,10.525) 140(-6.75,10.525) 141(-7.25,10.525) 142(-7.75,10.525) 143(-8.25,10.525) 144(-8.75,10.525)
Top Overlay:
  circle w0.6: c-8.35,8.35 r0.3
  circle w0.25: c-10.525,9.425 r0.125
  lines w0.2: -9.35,-9.35 9.35,-9.35 9.35,9.35 -9.35,9.35 -9.35,-9.35
Mechanical 13:
  circle w0.1: c-9.1,9.1 r0.5
  lines w0.1: -10,-10 10,-10 10,10 -10,10 -10,-10
Mechanical 15:
  lines w0.1: -0.5,0 0.5,0 ; 0,-0.5 0,0.5 ; -11.4,-11.4 11.4,-11.4 11.4,11.4 -11.4,11.4 -11.4,-11.4
3D body: height 1.6, standoff 0, extent -10,-10 10,10

## TQ144_M [mm] "144-Pin Plastic Quad Flat Pack (TQ144), IPC Low Density"
height 1.6
pads (144):
  oval 2.1x0.3 smd: 1(-10.6,8.75) 2(-10.6,8.25) 3(-10.6,7.75) 4(-10.6,7.25) 5(-10.6,6.75) 6(-10.6,6.25) 7(-10.6,5.75) 8(-10.6,5.25) 9(-10.6,4.75) 10(-10.6,4.25) 11(-10.6,3.75) 12(-10.6,3.25) 13(-10.6,2.75) 14(-10.6,2.25) 15(-10.6,1.75) 16(-10.6,1.25) 17(-10.6,0.75) 18(-10.6,0.25) 19(-10.6,-0.25) 20(-10.6,-0.75) 21(-10.6,-1.25) 22(-10.6,-1.75) 23(-10.6,-2.25) 24(-10.6,-2.75) 25(-10.6,-3.25) 26(-10.6,-3.75) 27(-10.6,-4.25) 28(-10.6,-4.75) 29(-10.6,-5.25) 30(-10.6,-5.75) 31(-10.6,-6.25) 32(-10.6,-6.75) 33(-10.6,-7.25) 34(-10.6,-7.75) 35(-10.6,-8.25) 36(-10.6,-8.75) 73(10.6,-8.75) 74(10.6,-8.25) 75(10.6,-7.75) 76(10.6,-7.25) 77(10.6,-6.75) 78(10.6,-6.25) 79(10.6,-5.75) 80(10.6,-5.25) 81(10.6,-4.75) 82(10.6,-4.25) 83(10.6,-3.75) 84(10.6,-3.25) 85(10.6,-2.75) 86(10.6,-2.25) 87(10.6,-1.75) 88(10.6,-1.25) 89(10.6,-0.75) 90(10.6,-0.25) 91(10.6,0.25) 92(10.6,0.75) 93(10.6,1.25) 94(10.6,1.75) 95(10.6,2.25) 96(10.6,2.75) 97(10.6,3.25) 98(10.6,3.75) 99(10.6,4.25) 100(10.6,4.75) 101(10.6,5.25) 102(10.6,5.75) 103(10.6,6.25) 104(10.6,6.75) 105(10.6,7.25) 106(10.6,7.75) 107(10.6,8.25) 108(10.6,8.75)
  oval 0.3x2.1 smd: 37(-8.75,-10.6) 38(-8.25,-10.6) 39(-7.75,-10.6) 40(-7.25,-10.6) 41(-6.75,-10.6) 42(-6.25,-10.6) 43(-5.75,-10.6) 44(-5.25,-10.6) 45(-4.75,-10.6) 46(-4.25,-10.6) 47(-3.75,-10.6) 48(-3.25,-10.6) 49(-2.75,-10.6) 50(-2.25,-10.6) 51(-1.75,-10.6) 52(-1.25,-10.6) 53(-0.75,-10.6) 54(-0.25,-10.6) 55(0.25,-10.6) 56(0.75,-10.6) 57(1.25,-10.6) 58(1.75,-10.6) 59(2.25,-10.6) 60(2.75,-10.6) 61(3.25,-10.6) 62(3.75,-10.6) 63(4.25,-10.6) 64(4.75,-10.6) 65(5.25,-10.6) 66(5.75,-10.6) 67(6.25,-10.6) 68(6.75,-10.6) 69(7.25,-10.6) 70(7.75,-10.6) 71(8.25,-10.6) 72(8.75,-10.6) 109(8.75,10.6) 110(8.25,10.6) 111(7.75,10.6) 112(7.25,10.6) 113(6.75,10.6) 114(6.25,10.6) 115(5.75,10.6) 116(5.25,10.6) 117(4.75,10.6) 118(4.25,10.6) 119(3.75,10.6) 120(3.25,10.6) 121(2.75,10.6) 122(2.25,10.6) 123(1.75,10.6) 124(1.25,10.6) 125(0.75,10.6) 126(0.25,10.6) 127(-0.25,10.6) 128(-0.75,10.6) 129(-1.25,10.6) 130(-1.75,10.6) 131(-2.25,10.6) 132(-2.75,10.6) 133(-3.25,10.6) 134(-3.75,10.6) 135(-4.25,10.6) 136(-4.75,10.6) 137(-5.25,10.6) 138(-5.75,10.6) 139(-6.25,10.6) 140(-6.75,10.6) 141(-7.25,10.6) 142(-7.75,10.6) 143(-8.25,10.6) 144(-8.75,10.6)
Top Overlay:
  circle w0.6: c-8.15,8.15 r0.3
  circle w0.25: c-10.6,9.45 r0.125
  lines w0.2: -9.15,-9.15 9.15,-9.15 9.15,9.15 -9.15,9.15 -9.15,-9.15
Mechanical 13:
  circle w0.1: c-9.1,9.1 r0.5
  lines w0.1: -10,-10 10,-10 10,10 -10,10 -10,-10
Mechanical 15:
  lines w0.1: -0.5,0 0.5,0 ; 0,-0.5 0,0.5 ; -12.15,-12.15 12.15,-12.15 12.15,12.15 -12.15,12.15 -12.15,-12.15
3D body: height 1.6, standoff 0, extent -10,-10 10,10

## TQ144_N [mm] "144-Pin Plastic Quad Flat Pack (TQ144), IPC Medium Density"
height 1.6
pads (144):
  oval 1.8x0.3 smd: 1(-10.55,8.75) 2(-10.55,8.25) 3(-10.55,7.75) 4(-10.55,7.25) 5(-10.55,6.75) 6(-10.55,6.25) 7(-10.55,5.75) 8(-10.55,5.25) 9(-10.55,4.75) 10(-10.55,4.25) 11(-10.55,3.75) 12(-10.55,3.25) 13(-10.55,2.75) 14(-10.55,2.25) 15(-10.55,1.75) 16(-10.55,1.25) 17(-10.55,0.75) 18(-10.55,0.25) 19(-10.55,-0.25) 20(-10.55,-0.75) 21(-10.55,-1.25) 22(-10.55,-1.75) 23(-10.55,-2.25) 24(-10.55,-2.75) 25(-10.55,-3.25) 26(-10.55,-3.75) 27(-10.55,-4.25) 28(-10.55,-4.75) 29(-10.55,-5.25) 30(-10.55,-5.75) 31(-10.55,-6.25) 32(-10.55,-6.75) 33(-10.55,-7.25) 34(-10.55,-7.75) 35(-10.55,-8.25) 36(-10.55,-8.75) 73(10.55,-8.75) 74(10.55,-8.25) 75(10.55,-7.75) 76(10.55,-7.25) 77(10.55,-6.75) 78(10.55,-6.25) 79(10.55,-5.75) 80(10.55,-5.25) 81(10.55,-4.75) 82(10.55,-4.25) 83(10.55,-3.75) 84(10.55,-3.25) 85(10.55,-2.75) 86(10.55,-2.25) 87(10.55,-1.75) 88(10.55,-1.25) 89(10.55,-0.75) 90(10.55,-0.25) 91(10.55,0.25) 92(10.55,0.75) 93(10.55,1.25) 94(10.55,1.75) 95(10.55,2.25) 96(10.55,2.75) 97(10.55,3.25) 98(10.55,3.75) 99(10.55,4.25) 100(10.55,4.75) 101(10.55,5.25) 102(10.55,5.75) 103(10.55,6.25) 104(10.55,6.75) 105(10.55,7.25) 106(10.55,7.75) 107(10.55,8.25) 108(10.55,8.75)
  oval 0.3x1.8 smd: 37(-8.75,-10.55) 38(-8.25,-10.55) 39(-7.75,-10.55) 40(-7.25,-10.55) 41(-6.75,-10.55) 42(-6.25,-10.55) 43(-5.75,-10.55) 44(-5.25,-10.55) 45(-4.75,-10.55) 46(-4.25,-10.55) 47(-3.75,-10.55) 48(-3.25,-10.55) 49(-2.75,-10.55) 50(-2.25,-10.55) 51(-1.75,-10.55) 52(-1.25,-10.55) 53(-0.75,-10.55) 54(-0.25,-10.55) 55(0.25,-10.55) 56(0.75,-10.55) 57(1.25,-10.55) 58(1.75,-10.55) 59(2.25,-10.55) 60(2.75,-10.55) 61(3.25,-10.55) 62(3.75,-10.55) 63(4.25,-10.55) 64(4.75,-10.55) 65(5.25,-10.55) 66(5.75,-10.55) 67(6.25,-10.55) 68(6.75,-10.55) 69(7.25,-10.55) 70(7.75,-10.55) 71(8.25,-10.55) 72(8.75,-10.55) 109(8.75,10.55) 110(8.25,10.55) 111(7.75,10.55) 112(7.25,10.55) 113(6.75,10.55) 114(6.25,10.55) 115(5.75,10.55) 116(5.25,10.55) 117(4.75,10.55) 118(4.25,10.55) 119(3.75,10.55) 120(3.25,10.55) 121(2.75,10.55) 122(2.25,10.55) 123(1.75,10.55) 124(1.25,10.55) 125(0.75,10.55) 126(0.25,10.55) 127(-0.25,10.55) 128(-0.75,10.55) 129(-1.25,10.55) 130(-1.75,10.55) 131(-2.25,10.55) 132(-2.75,10.55) 133(-3.25,10.55) 134(-3.75,10.55) 135(-4.25,10.55) 136(-4.75,10.55) 137(-5.25,10.55) 138(-5.75,10.55) 139(-6.25,10.55) 140(-6.75,10.55) 141(-7.25,10.55) 142(-7.75,10.55) 143(-8.25,10.55) 144(-8.75,10.55)
Top Overlay:
  circle w0.25: c-10.55,9.45 r0.125
  circle w0.6: c-8.25,8.25 r0.3
  lines w0.2: -9.25,-9.25 -9.25,9.25 9.25,9.25 9.25,-9.25 -9.25,-9.25
Mechanical 13:
  circle w0.1: c-9.1,9.1 r0.5
  lines w0.1: -10,-10 -10,10 10,10 10,-10 -10,-10
Mechanical 15:
  lines w0.1: -0.5,0 0.5,0 ; 0,-0.5 0,0.5 ; -11.7,-11.7 -11.7,11.7 11.7,11.7 11.7,-11.7 -11.7,-11.7
3D body: height 1.6, standoff 0, extent -10,-10 10,10

## TQ176_L [mm] "176-Pin Plastic Quad Flat Pack (TQ176), IPC High Density"
height 1.6
pads (176):
  oval 1.55x0.25 smd: 1(-12.525,10.75) 2(-12.525,10.25) 3(-12.525,9.75) 4(-12.525,9.25) 5(-12.525,8.75) 6(-12.525,8.25) 7(-12.525,7.75) 8(-12.525,7.25) 9(-12.525,6.75) 10(-12.525,6.25) 11(-12.525,5.75) 12(-12.525,5.25) 13(-12.525,4.75) 14(-12.525,4.25) 15(-12.525,3.75) 16(-12.525,3.25) 17(-12.525,2.75) 18(-12.525,2.25) 19(-12.525,1.75) 20(-12.525,1.25) 21(-12.525,0.75) 22(-12.525,0.25) 23(-12.525,-0.25) 24(-12.525,-0.75) 25(-12.525,-1.25) 26(-12.525,-1.75) 27(-12.525,-2.25) 28(-12.525,-2.75) 29(-12.525,-3.25) 30(-12.525,-3.75) 31(-12.525,-4.25) 32(-12.525,-4.75) 33(-12.525,-5.25) 34(-12.525,-5.75) 35(-12.525,-6.25) 36(-12.525,-6.75) 37(-12.525,-7.25) 38(-12.525,-7.75) 39(-12.525,-8.25) 40(-12.525,-8.75) 41(-12.525,-9.25) 42(-12.525,-9.75) 43(-12.525,-10.25) 44(-12.525,-10.75) 89(12.525,-10.75) 90(12.525,-10.25) 91(12.525,-9.75) 92(12.525,-9.25) 93(12.525,-8.75) 94(12.525,-8.25) 95(12.525,-7.75) 96(12.525,-7.25) 97(12.525,-6.75) 98(12.525,-6.25) 99(12.525,-5.75) 100(12.525,-5.25) 101(12.525,-4.75) 102(12.525,-4.25) 103(12.525,-3.75) 104(12.525,-3.25) 105(12.525,-2.75) 106(12.525,-2.25) 107(12.525,-1.75) 108(12.525,-1.25) 109(12.525,-0.75) 110(12.525,-0.25) 111(12.525,0.25) 112(12.525,0.75) 113(12.525,1.25) 114(12.525,1.75) 115(12.525,2.25) 116(12.525,2.75) 117(12.525,3.25) 118(12.525,3.75) 119(12.525,4.25) 120(12.525,4.75) 121(12.525,5.25) 122(12.525,5.75) 123(12.525,6.25) 124(12.525,6.75) 125(12.525,7.25) 126(12.525,7.75) 127(12.525,8.25) 128(12.525,8.75) 129(12.525,9.25) 130(12.525,9.75) 131(12.525,10.25) 132(12.525,10.75)
  oval 0.25x1.55 smd: 45(-10.75,-12.525) 46(-10.25,-12.525) 47(-9.75,-12.525) 48(-9.25,-12.525) 49(-8.75,-12.525) 50(-8.25,-12.525) 51(-7.75,-12.525) 52(-7.25,-12.525) 53(-6.75,-12.525) 54(-6.25,-12.525) 55(-5.75,-12.525) 56(-5.25,-12.525) 57(-4.75,-12.525) 58(-4.25,-12.525) 59(-3.75,-12.525) 60(-3.25,-12.525) 61(-2.75,-12.525) 62(-2.25,-12.525) 63(-1.75,-12.525) 64(-1.25,-12.525) 65(-0.75,-12.525) 66(-0.25,-12.525) 67(0.25,-12.525) 68(0.75,-12.525) 69(1.25,-12.525) 70(1.75,-12.525) 71(2.25,-12.525) 72(2.75,-12.525) 73(3.25,-12.525) 74(3.75,-12.525) 75(4.25,-12.525) 76(4.75,-12.525) 77(5.25,-12.525) 78(5.75,-12.525) 79(6.25,-12.525) 80(6.75,-12.525) 81(7.25,-12.525) 82(7.75,-12.525) 83(8.25,-12.525) 84(8.75,-12.525) 85(9.25,-12.525) 86(9.75,-12.525) 87(10.25,-12.525) 88(10.75,-12.525) 133(10.75,12.525) 134(10.25,12.525) 135(9.75,12.525) 136(9.25,12.525) 137(8.75,12.525) 138(8.25,12.525) 139(7.75,12.525) 140(7.25,12.525) 141(6.75,12.525) 142(6.25,12.525) 143(5.75,12.525) 144(5.25,12.525) 145(4.75,12.525) 146(4.25,12.525) 147(3.75,12.525) 148(3.25,12.525) 149(2.75,12.525) 150(2.25,12.525) 151(1.75,12.525) 152(1.25,12.525) 153(0.75,12.525) 154(0.25,12.525) 155(-0.25,12.525) 156(-0.75,12.525) 157(-1.25,12.525) 158(-1.75,12.525) 159(-2.25,12.525) 160(-2.75,12.525) 161(-3.25,12.525) 162(-3.75,12.525) 163(-4.25,12.525) 164(-4.75,12.525) 165(-5.25,12.525) 166(-5.75,12.525) 167(-6.25,12.525) 168(-6.75,12.525) 169(-7.25,12.525) 170(-7.75,12.525) 171(-8.25,12.525) 172(-8.75,12.525) 173(-9.25,12.525) 174(-9.75,12.525) 175(-10.25,12.525) 176(-10.75,12.525)
Top Overlay:
  circle w0.6: c-10.35,10.35 r0.3
  circle w0.25: c-12.525,11.425 r0.125
  lines w0.2: -11.35,-11.35 11.35,-11.35 11.35,11.35 -11.35,11.35 -11.35,-11.35
Mechanical 13:
  circle w0.1: c-11.1,11.1 r0.5
  lines w0.1: -12,-12 12,-12 12,12 -12,12 -12,-12
Mechanical 15:
  lines w0.1: -0.5,0 0.5,0 ; 0,-0.5 0,0.5 ; -13.4,-13.4 13.4,-13.4 13.4,13.4 -13.4,13.4 -13.4,-13.4
3D body: height 1.6, standoff 0, extent -12,-12 12,12

## TQ176_M [mm] "176-Pin Plastic Quad Flat Pack (TQ176), IPC Low Density"
height 1.6
pads (176):
  oval 2.1x0.3 smd: 1(-12.6,10.75) 2(-12.6,10.25) 3(-12.6,9.75) 4(-12.6,9.25) 5(-12.6,8.75) 6(-12.6,8.25) 7(-12.6,7.75) 8(-12.6,7.25) 9(-12.6,6.75) 10(-12.6,6.25) 11(-12.6,5.75) 12(-12.6,5.25) 13(-12.6,4.75) 14(-12.6,4.25) 15(-12.6,3.75) 16(-12.6,3.25) 17(-12.6,2.75) 18(-12.6,2.25) 19(-12.6,1.75) 20(-12.6,1.25) 21(-12.6,0.75) 22(-12.6,0.25) 23(-12.6,-0.25) 24(-12.6,-0.75) 25(-12.6,-1.25) 26(-12.6,-1.75) 27(-12.6,-2.25) 28(-12.6,-2.75) 29(-12.6,-3.25) 30(-12.6,-3.75) 31(-12.6,-4.25) 32(-12.6,-4.75) 33(-12.6,-5.25) 34(-12.6,-5.75) 35(-12.6,-6.25) 36(-12.6,-6.75) 37(-12.6,-7.25) 38(-12.6,-7.75) 39(-12.6,-8.25) 40(-12.6,-8.75) 41(-12.6,-9.25) 42(-12.6,-9.75) 43(-12.6,-10.25) 44(-12.6,-10.75) 89(12.6,-10.75) 90(12.6,-10.25) 91(12.6,-9.75) 92(12.6,-9.25) 93(12.6,-8.75) 94(12.6,-8.25) 95(12.6,-7.75) 96(12.6,-7.25) 97(12.6,-6.75) 98(12.6,-6.25) 99(12.6,-5.75) 100(12.6,-5.25) 101(12.6,-4.75) 102(12.6,-4.25) 103(12.6,-3.75) 104(12.6,-3.25) 105(12.6,-2.75) 106(12.6,-2.25) 107(12.6,-1.75) 108(12.6,-1.25) 109(12.6,-0.75) 110(12.6,-0.25) 111(12.6,0.25) 112(12.6,0.75) 113(12.6,1.25) 114(12.6,1.75) 115(12.6,2.25) 116(12.6,2.75) 117(12.6,3.25) 118(12.6,3.75) 119(12.6,4.25) 120(12.6,4.75) 121(12.6,5.25) 122(12.6,5.75) 123(12.6,6.25) 124(12.6,6.75) 125(12.6,7.25) 126(12.6,7.75) 127(12.6,8.25) 128(12.6,8.75) 129(12.6,9.25) 130(12.6,9.75) 131(12.6,10.25) 132(12.6,10.75)
  oval 0.3x2.1 smd: 45(-10.75,-12.6) 46(-10.25,-12.6) 47(-9.75,-12.6) 48(-9.25,-12.6) 49(-8.75,-12.6) 50(-8.25,-12.6) 51(-7.75,-12.6) 52(-7.25,-12.6) 53(-6.75,-12.6) 54(-6.25,-12.6) 55(-5.75,-12.6) 56(-5.25,-12.6) 57(-4.75,-12.6) 58(-4.25,-12.6) 59(-3.75,-12.6) 60(-3.25,-12.6) 61(-2.75,-12.6) 62(-2.25,-12.6) 63(-1.75,-12.6) 64(-1.25,-12.6) 65(-0.75,-12.6) 66(-0.25,-12.6) 67(0.25,-12.6) 68(0.75,-12.6) 69(1.25,-12.6) 70(1.75,-12.6) 71(2.25,-12.6) 72(2.75,-12.6) 73(3.25,-12.6) 74(3.75,-12.6) 75(4.25,-12.6) 76(4.75,-12.6) 77(5.25,-12.6) 78(5.75,-12.6) 79(6.25,-12.6) 80(6.75,-12.6) 81(7.25,-12.6) 82(7.75,-12.6) 83(8.25,-12.6) 84(8.75,-12.6) 85(9.25,-12.6) 86(9.75,-12.6) 87(10.25,-12.6) 88(10.75,-12.6) 133(10.75,12.6) 134(10.25,12.6) 135(9.75,12.6) 136(9.25,12.6) 137(8.75,12.6) 138(8.25,12.6) 139(7.75,12.6) 140(7.25,12.6) 141(6.75,12.6) 142(6.25,12.6) 143(5.75,12.6) 144(5.25,12.6) 145(4.75,12.6) 146(4.25,12.6) 147(3.75,12.6) 148(3.25,12.6) 149(2.75,12.6) 150(2.25,12.6) 151(1.75,12.6) 152(1.25,12.6) 153(0.75,12.6) 154(0.25,12.6) 155(-0.25,12.6) 156(-0.75,12.6) 157(-1.25,12.6) 158(-1.75,12.6) 159(-2.25,12.6) 160(-2.75,12.6) 161(-3.25,12.6) 162(-3.75,12.6) 163(-4.25,12.6) 164(-4.75,12.6) 165(-5.25,12.6) 166(-5.75,12.6) 167(-6.25,12.6) 168(-6.75,12.6) 169(-7.25,12.6) 170(-7.75,12.6) 171(-8.25,12.6) 172(-8.75,12.6) 173(-9.25,12.6) 174(-9.75,12.6) 175(-10.25,12.6) 176(-10.75,12.6)
Top Overlay:
  circle w0.6: c-10.15,10.15 r0.3
  circle w0.25: c-12.6,11.45 r0.125
  lines w0.2: -11.15,-11.15 11.15,-11.15 11.15,11.15 -11.15,11.15 -11.15,-11.15
Mechanical 13:
  circle w0.1: c-11.1,11.1 r0.5
  lines w0.1: -12,-12 12,-12 12,12 -12,12 -12,-12
Mechanical 15:
  lines w0.1: -0.5,0 0.5,0 ; 0,-0.5 0,0.5 ; -14.15,-14.15 14.15,-14.15 14.15,14.15 -14.15,14.15 -14.15,-14.15
3D body: height 1.6, standoff 0, extent -12,-12 12,12

## TQ176_N [mm] "176-Pin Plastic Quad Flat Pack (TQ176), IPC Medium Density"
height 1.6
pads (176):
  oval 1.8x0.3 smd: 1(-12.55,10.75) 2(-12.55,10.25) 3(-12.55,9.75) 4(-12.55,9.25) 5(-12.55,8.75) 6(-12.55,8.25) 7(-12.55,7.75) 8(-12.55,7.25) 9(-12.55,6.75) 10(-12.55,6.25) 11(-12.55,5.75) 12(-12.55,5.25) 13(-12.55,4.75) 14(-12.55,4.25) 15(-12.55,3.75) 16(-12.55,3.25) 17(-12.55,2.75) 18(-12.55,2.25) 19(-12.55,1.75) 20(-12.55,1.25) 21(-12.55,0.75) 22(-12.55,0.25) 23(-12.55,-0.25) 24(-12.55,-0.75) 25(-12.55,-1.25) 26(-12.55,-1.75) 27(-12.55,-2.25) 28(-12.55,-2.75) 29(-12.55,-3.25) 30(-12.55,-3.75) 31(-12.55,-4.25) 32(-12.55,-4.75) 33(-12.55,-5.25) 34(-12.55,-5.75) 35(-12.55,-6.25) 36(-12.55,-6.75) 37(-12.55,-7.25) 38(-12.55,-7.75) 39(-12.55,-8.25) 40(-12.55,-8.75) 41(-12.55,-9.25) 42(-12.55,-9.75) 43(-12.55,-10.25) 44(-12.55,-10.75) 89(12.55,-10.75) 90(12.55,-10.25) 91(12.55,-9.75) 92(12.55,-9.25) 93(12.55,-8.75) 94(12.55,-8.25) 95(12.55,-7.75) 96(12.55,-7.25) 97(12.55,-6.75) 98(12.55,-6.25) 99(12.55,-5.75) 100(12.55,-5.25) 101(12.55,-4.75) 102(12.55,-4.25) 103(12.55,-3.75) 104(12.55,-3.25) 105(12.55,-2.75) 106(12.55,-2.25) 107(12.55,-1.75) 108(12.55,-1.25) 109(12.55,-0.75) 110(12.55,-0.25) 111(12.55,0.25) 112(12.55,0.75) 113(12.55,1.25) 114(12.55,1.75) 115(12.55,2.25) 116(12.55,2.75) 117(12.55,3.25) 118(12.55,3.75) 119(12.55,4.25) 120(12.55,4.75) 121(12.55,5.25) 122(12.55,5.75) 123(12.55,6.25) 124(12.55,6.75) 125(12.55,7.25) 126(12.55,7.75) 127(12.55,8.25) 128(12.55,8.75) 129(12.55,9.25) 130(12.55,9.75) 131(12.55,10.25) 132(12.55,10.75)
  oval 0.3x1.8 smd: 45(-10.75,-12.55) 46(-10.25,-12.55) 47(-9.75,-12.55) 48(-9.25,-12.55) 49(-8.75,-12.55) 50(-8.25,-12.55) 51(-7.75,-12.55) 52(-7.25,-12.55) 53(-6.75,-12.55) 54(-6.25,-12.55) 55(-5.75,-12.55) 56(-5.25,-12.55) 57(-4.75,-12.55) 58(-4.25,-12.55) 59(-3.75,-12.55) 60(-3.25,-12.55) 61(-2.75,-12.55) 62(-2.25,-12.55) 63(-1.75,-12.55) 64(-1.25,-12.55) 65(-0.75,-12.55) 66(-0.25,-12.55) 67(0.25,-12.55) 68(0.75,-12.55) 69(1.25,-12.55) 70(1.75,-12.55) 71(2.25,-12.55) 72(2.75,-12.55) 73(3.25,-12.55) 74(3.75,-12.55) 75(4.25,-12.55) 76(4.75,-12.55) 77(5.25,-12.55) 78(5.75,-12.55) 79(6.25,-12.55) 80(6.75,-12.55) 81(7.25,-12.55) 82(7.75,-12.55) 83(8.25,-12.55) 84(8.75,-12.55) 85(9.25,-12.55) 86(9.75,-12.55) 87(10.25,-12.55) 88(10.75,-12.55) 133(10.75,12.55) 134(10.25,12.55) 135(9.75,12.55) 136(9.25,12.55) 137(8.75,12.55) 138(8.25,12.55) 139(7.75,12.55) 140(7.25,12.55) 141(6.75,12.55) 142(6.25,12.55) 143(5.75,12.55) 144(5.25,12.55) 145(4.75,12.55) 146(4.25,12.55) 147(3.75,12.55) 148(3.25,12.55) 149(2.75,12.55) 150(2.25,12.55) 151(1.75,12.55) 152(1.25,12.55) 153(0.75,12.55) 154(0.25,12.55) 155(-0.25,12.55) 156(-0.75,12.55) 157(-1.25,12.55) 158(-1.75,12.55) 159(-2.25,12.55) 160(-2.75,12.55) 161(-3.25,12.55) 162(-3.75,12.55) 163(-4.25,12.55) 164(-4.75,12.55) 165(-5.25,12.55) 166(-5.75,12.55) 167(-6.25,12.55) 168(-6.75,12.55) 169(-7.25,12.55) 170(-7.75,12.55) 171(-8.25,12.55) 172(-8.75,12.55) 173(-9.25,12.55) 174(-9.75,12.55) 175(-10.25,12.55) 176(-10.75,12.55)
Top Overlay:
  circle w0.25: c-12.55,11.45 r0.125
  circle w0.6: c-10.25,10.25 r0.3
  lines w0.2: -11.25,-11.25 -11.25,11.25 11.25,11.25 11.25,-11.25 -11.25,-11.25
Mechanical 13:
  circle w0.1: c-11.1,11.1 r0.5
  lines w0.1: -12,-12 -12,12 12,12 12,-12 -12,-12
Mechanical 15:
  lines w0.1: -0.5,0 0.5,0 ; 0,-0.5 0,0.5 ; -13.7,-13.7 -13.7,13.7 13.7,13.7 13.7,-13.7 -13.7,-13.7
3D body: height 1.6, standoff 0, extent -12,-12 12,12